# EAGLE library part SA08-21 (library 7seg)
Kingbright 20mm (0.8Inch) 0.6in row pitch Single 7 seg Display CA Source: SA08-11SRWA
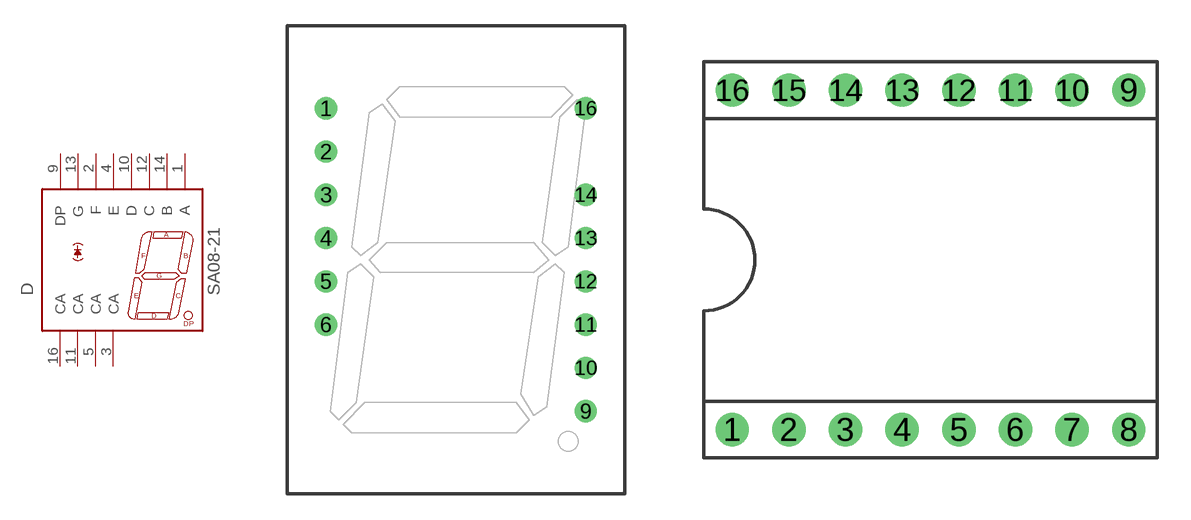
[diagram p0: symbol with the pads of S*08; footprints S*08, SOCKET-16-0.6]

Designator prefix D

## SA08-21  [S*08]
1  A  pas
2  F  pas
3  CA  pas
4  E  pas
5  CA  pas
9  DP  pas
10  D  pas
11  CA  pas
12  C  pas
13  G  pas
14  B  pas
16  CA  pas

## SA08-21S  [SOCKET-16-0.6]
Pads as for S*08

## SA08-21V  [16-6810]
Pads as for S*08

## SA08-21R1  [16-X820]
Pads as for S*08

## SA08-21R2  [16-X822]
Pads as for S*08

## SA08-21R3  [16-X823]
Pads as for S*08

## Footprint S*08 (pad centres in mm)
Single 7 seg Display 16 pin DIL (0.6 Inch pitch, missing pins 7, 8, and 15 Source: Kingbright .. SA08-11SRWA and SC08-11SRWA
drill 0.8 pad 1.27 round: 1 -7.62,8.89; 2 -7.62,6.35; 3 -7.62,3.81; 4 -7.62,1.27; 5 -7.62,-1.27; 6 -7.62,-3.81; 9 7.62,-8.89; 10 7.62,-6.35; 11 7.62,-3.81; 12 7.62,-1.27; 13 7.62,1.27; 14 7.62,3.81; 16 7.62,8.89

## Footprint SOCKET-16-0.6 (pad centres in mm)
16 pin Dual In Line Socket 0.6 inch row pitch
drill 0.8 pad 1.5 round: 1 -8.89,-7.62; 2 -6.35,-7.62; 3 -3.81,-7.62; 4 -1.27,-7.62; 5 1.27,-7.62; 6 3.81,-7.62; 7 6.35,-7.62; 8 8.89,-7.62; 9 8.89,7.62; 10 6.35,7.62; 11 3.81,7.62; 12 1.27,7.62; 13 -1.27,7.62; 14 -3.81,7.62; 15 -6.35,7.62; 16 -8.89,7.62

## Footprint 16-6810 (pad centres in mm)
16pin 0.6in PCB pitch Vertical series 800 socket
drill 0.8 round: 1 -8.89,-7.62; 2 -6.35,-7.62; 3 -3.81,-7.62; 4 -1.27,-7.62; 5 1.27,-7.62; 6 3.81,-7.62; 7 6.35,-7.62; 8 8.89,-7.62; 9 8.89,7.62; 10 6.35,7.62; 11 3.81,7.62; 12 1.27,7.62; 13 -1.27,7.62; 14 -3.81,7.62; 15 -6.35,7.62; 16 -8.89,7.62

## Footprint 16-X820 (pad centres in mm)
16pin 0.1in PCB pitch Horizontal series 800 socket
drill 0.8 round: 1 -8.89,-1.27; 2 -6.35,-1.27; 3 -3.81,-1.27; 4 -1.27,-1.27; 5 1.27,-1.27; 6 3.81,-1.27; 7 6.35,-1.27; 8 8.89,-1.27; 9 8.89,1.27; 10 6.35,1.27; 11 3.81,1.27; 12 1.27,1.27; 13 -1.27,1.27; 14 -3.81,1.27; 15 -6.35,1.27; 16 -8.89,1.27

## Footprint 16-X822 (pad centres in mm)
16pin 0.2in PCB pitch Horizontal series 800 socket
drill 0.8 round: 1 -8.89,-2.54; 2 -6.35,-2.54; 3 -3.81,-2.54; 4 -1.27,-2.54; 5 1.27,-2.54; 6 3.81,-2.54; 7 6.35,-2.54; 8 8.89,-2.54; 9 8.89,2.54; 10 6.35,2.54; 11 3.81,2.54; 12 1.27,2.54; 13 -1.27,2.54; 14 -3.81,2.54; 15 -6.35,2.54; 16 -8.89,2.54

## Footprint 16-X823 (pad centres in mm)
16pin 0.3in PCB pitch Horizontal series 800 socket
drill 0.8 round: 1 -8.89,-3.81; 2 -6.35,-3.81; 3 -3.81,-3.81; 4 -1.27,-3.81; 5 1.27,-3.81; 6 3.81,-3.81; 7 6.35,-3.81; 8 8.89,-3.81; 9 8.89,3.81; 10 6.35,3.81; 11 3.81,3.81; 12 1.27,3.81; 13 -1.27,3.81; 14 -3.81,3.81; 15 -6.35,3.81; 16 -8.89,3.81